# Altium schematic symbol library LTC3605-QFN24.SchLib: 1 symbol
Pins are listed as number, name and electrical type; pins without a type are passive.

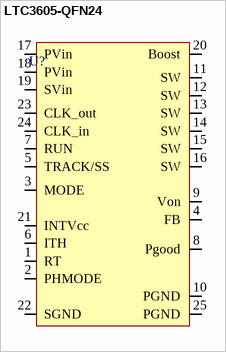
[diagram p0: symbol LTC3605-QFN24]

## LTC3605-QFN24
designator U?  (value not drawn)
pins: 1 RT, 2 PHMODE, 3 MODE, 4 FB, 5 TRACK/SS, 6 ITH, 7 RUN, 8 Pgood, 9 Von, 10 PGND, 11 SW, 12 SW, 13 SW, 14 SW, 15 SW, 16 SW, 17 PVin, 18 PVin, 19 SVin, 20 Boost, 21 INTVcc, 22 SGND, 23 CLK_out, 24 CLK_in, 25 PGND